# Altium schematic symbol library SchLib_Main.SchLib: 425 symbols (part 5 of 11)
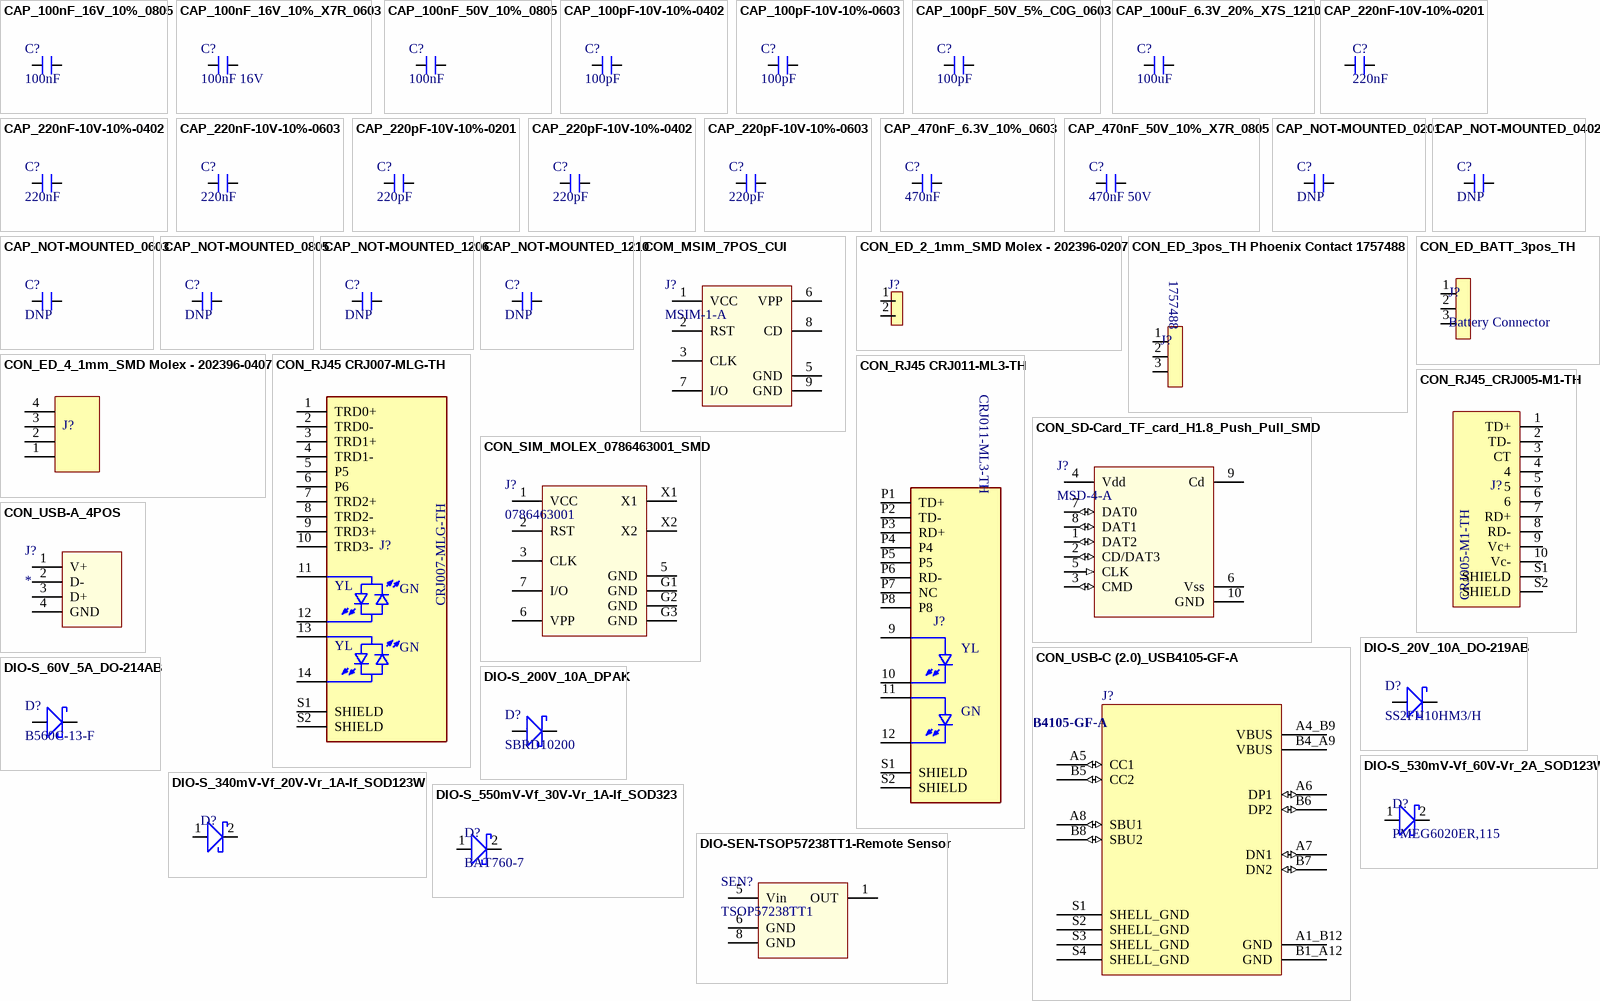
[diagram p20: symbols CAP_100nF_16V_10%_0805 to DIO-SEN-TSOP57238TT1-Remote Sensor]

## CON_ED_4_1mm_SMD Molex - 202396-0407
designator J?  (value not drawn)
Conn Shrouded Header (4 Sides) HDR 4 POS 1mm Solder RA SMD Pico-Clasp™ T/R; Manufacturer: Molex; Manufacturer Part Number: 202396-0407; Supplier 1: Mouser; RoHS: No; Category: Headers and Wire Housings; Stock 1: 53379; Pricing 1: 1=1.14, 10=0.932, 50=0.932, 100=0.795, 1000=0.739, 10000=0.47 (USD); ComponentLink1URL: http://datasheet.octopart.com/202396-0407-Molex-datasheet-134623761.pdf?src-supplier=Verical; ComponentLink1Description: http://datasheet.octopart.com/202396-0407-Molex-datasheet-134623761.pdf?src-supplier=Verical; ComponentLink2URL: https://www.molex.com/pdm_docs/sd/2023960407_sd.pdf?src-supplier=Digi-Key; ComponentLink2Description: https://www.molex.com/pdm_docs/sd/2023960407_sd.pdf?src-supplier=Digi-Key; ComponentLink3URL: http://datasheet.octopart.com/202396-0407-Molex-datasheet-134623761.pdf?src-supplier=Farnell; ComponentLink3Description: http://datasheet.octopart.com/202396-0407-Molex-datasheet-134623761.pdf?src-supplier=Farnell; ComponentLink4URL: http://datasheet.octopart.com/202396-0407-Molex-datasheet-134623761.pdf?src-supplier=Mouser; ComponentLink4Description: http://datasheet.octopart.com/202396-0407-Molex-datasheet-134623761.pdf?src-supplier=Mouser; ComponentLink5URL: http://datasheet.octopart.com/202396-0407-Molex-datasheet-134623761.pdf?src-supplier=Avnet; ComponentLink5Description: http://datasheet.octopart.com/202396-0407-Molex-datasheet-134623761.pdf?src-supplier=Avnet; ComponentLink6URL: http://datasheet.octopart.com/202396-0407-Molex-datasheet-134623761.pdf?src-supplier=Newark; ComponentLink6Description: http://datasheet.octopart.com/202396-0407-Molex-datasheet-134623761.pdf?src-supplier=Newark; ComponentLink7URL: http://datasheet.octopart.com/202396-0407-Molex-datasheet-134623761.pdf?src-supplier=Digi-Key; ComponentLink7Description: http://datasheet.octopart.com/202396-0407-Molex-datasheet-134623761.pdf?src-supplier=Digi-Key; ComponentLink8URL: http://datasheet.octopart.com/202396-0407-Molex-datasheet-134623761.pdf?src-supplier=Onlinecomponents.com; ComponentLink8Description: http://datasheet.octopart.com/202396-0407-Molex-datasheet-134623761.pdf?src-supplier=Onlinecomponents.com; ComponentLink9URL: http://datasheet.octopart.com/202396-0407-Molex-datasheet-134623761.pdf?src-supplier=Electro+Sonic; ComponentLink9Description: http://datasheet.octopart.com/202396-0407-Molex-datasheet-134623761.pdf?src-supplier=Electro+Sonic; ComponentLink10URL: http://datasheet.octopart.com/202396-0407-Molex-datasheet-134623761.pdf?src-supplier=Heilind+Electronics; ComponentLink10Description: http://datasheet.octopart.com/202396-0407-Molex-datasheet-134623761.pdf?src-supplier=Heilind+Electronics; ComponentLink11URL: https://datasheet.octopart.com/202396-0407-Molex-datasheet-154746675.pdf?src-supplier=Master+Electronics; ComponentLink11Description: https://datasheet.octopart.com/202396-0407-Molex-datasheet-154746675.pdf?src-supplier=Master+Electronics; ComponentLink12URL: https://datasheet.octopart.com/202396-0407-Molex-datasheet-134623761.pdf?src-supplier=TME; ComponentLink12Description: https://datasheet.octopart.com/202396-0407-Molex-datasheet-134623761.pdf?src-supplier=TME; Supplier 2: Digi-Key; Manufacturer 2: Molex; Manufacturer Part Number 2: 202396-0407; Stock 2: 11088; Pricing 2: 1=1.05, 10=0.869, 100=0.7238 (USD); Supplier Part Number 2: WM26785CT-ND
footprint CON_ED_4Pos_1mm_SMD_Molex 202396-407
pins: 1 GND, 2 SDA, 3 SCL, 4 VCC

## CON_ED_BATT_3pos_TH
designator J?, comment Battery Connector
Connector Header Surface Mount, Right Angle 3 position 0.047" (1.20mm); Manufacturer 1: JST; Manufacturer Part Number 1: BM03B-ACHSS-GAN-TF; Supplier 1: Digi-Key; RoHS: No; Category: Connectors; Stock 1: 71629; Pricing 1: 1=0.71, 10=0.615, 100=0.5073, 500=0.44112, 1000=0.36393 (USD); Supplier Part Number 1: 455-BM03B-ACHSS-GAN-TFCT-ND
footprint CON_ED_Battery_3POS (Connector Header Surface Mount, Right Angle 3 position 0.047" (1.20mm))
pins: 1 13, 2 14, 3 15

## CON_RJ45 CRJ007-MLG-TH
designator J?  (value not drawn)
RJ jack, 1 port, 8P8C, gold flash, sheild, spring tabs, Y/G LED, magnetic; Manufacturer 1: CUI Devices; Manufacturer Part Number 1: CRJ007-MLG-TH; Supplier 1: Digi-Key; RoHS: No; Category: Modular / Ethernet Connectors; Stock 1: 783; Pricing 1: 1=7.76, 10=7.013, 25=6.6256, 40=6.464, 80=6.14075, 230=5.49439, 700=5.1712, 1400=4.5248 (USD); Supplier Part Number 1: 2223-CRJ007-MLG-TH-ND
footprint CON_RJ45 CRJ007-MLG-TH
pins: 1 TRD0+, 2 TRD0-, 3 TRD1+, 4 TRD1-, 5 P5, 6 P6, 7 TRD2+, 8 TRD2-, 9 TRD3+, 10 TRD3-, 11, 12, 13, 14, S1 SHIELD, S2 SHIELD
text: YL; GN

## CON_RJ45 CRJ011-ML3-TH
designator J?  (value not drawn)
10/100 BaseT, 8P8C, Single Port, Horizontal, Shielded, LED, Through Hole, RJ45 with Integrated Magnetics Modular...; Manufacturer: CUI Devices; Manufacturer Part Number: CRJ011-ML3-TH; Supplier 1: Digi-Key; RoHS: No; Category: Modular / Ethernet Connectors; Stock 1: 390; Pricing 1: 1=5.48, 10=4.975, 25=4.712, 40=4.6025, 80=4.38338, 230=3.83548, 440=3.72589, 1200=3.17797, 2400=2.9588 (USD); Supplier 2: Digi-Key; Manufacturer 2: CUI Devices; Manufacturer Part Number 2: CRJ011-ML3-TH; Stock 2: 380; Pricing 2: 1=5.48, 10=4.975, 25=4.712, 40=4.6025, 80=4.38338, 230=3.83548, 440=3.72589, 1200=3.17797, 2400=2.9588 (USD); Supplier Part Number 2: 2223-CRJ011-ML3-TH-ND
footprint CON_RJ45 CRJ011-ML3-TH
pins: 9, 10, 11, 12, P1 TD+, P2 TD-, P3 RD+, P4, P5, P6 RD-, P7 NC, P8, S1 SHIELD, S2 SHIELD
text: YL; GN

## CON_RJ45_CRJ005-M1-TH
designator J?  (value not drawn)
CRJ005 Series 8 Position Single Port Right Angle RJ45 Through Hole Modular Jack; Manufacturer: CUI Devices; Manufacturer Part Number: CRJ005-M1-TH; Supplier 1: Digi-Key; RoHS: No; Stock 1: 1456; Pricing 1: 1=5.73, 10=5.204, 25=4.9292, 40=4.81475, 80=4.58538, 230=4.01222, 440=3.89759, 1500=3.20978, 3000=3.09515 (USD); Supplier 2: Digi-Key; Manufacturer 2: CUI Devices; Manufacturer Part Number 2: CRJ005-M1-TH; Stock 2: 1456; Pricing 2: 1=5.73, 10=5.204, 25=4.9292, 40=4.81475, 80=4.58538, 230=4.01222, 440=3.89759, 1500=3.20978, 3000=3.09515 (USD); Supplier Part Number 2: 2223-CRJ005-M1-TH-ND
footprint CON_RJ45_TH
pins: 1 TD+, 2 TD-, 3 CT, 4, 5, 6, 7 RD+, 8 RD-, 9 Vc+, 10 Vc-, S1 SHIELD, S2 SHIELD

## CON_SD-Card_TF_card_H1.8_Push_Pull_SMD
designator J?, comment MSD-4-A
Memory Card Connectors 9 Positions, Push In, Auto Eject Out, SMT, 1.8 mm Height Above Board,; Manufacturer: SHOU HAN; Manufacturer Part Number: TF-CARDH1.8; ComponentLink6URL: https://datasheet.ciiva.com/683/1040310811-sd-683581.pdf?src-supplier=Digi-Key; ComponentLink6Description: https://datasheet.ciiva.com/683/1040310811-sd-683581.pdf?src-supplier=Digi-Key; ComponentLink7URL: https://datasheet.ciiva.com/15174/getdatasheetpartid-716154-15174887.pdf?src-supplier=Verical; ComponentLink7Description: https://datasheet.ciiva.com/15174/getdatasheetpartid-716154-15174887.pdf?src-supplier=Verical; Supplier: LCSC; Supplier Part Number: C7529389; RoHS: No; Category: Uncategorized; Stock: 1616; Pricing: 1=0.35, 10=0.348, 25=0.3408, 50=0.3204, 100=0.2727, 250=0.25224, 500=0.24544 (USD)
footprint CON_SD_CARD_9POS_1.1mm-P_1ROW (MSD-4-A / TF-CARD-H1.8)
pins: 1 DAT2 (io), 2 CD/DAT3 (io), 3 CMD (io), 4 Vdd (power), 5 CLK (in), 6 Vss (power), 7 DAT0 (io), 8 DAT1 (io), 9 Cd, 10 GND

## CON_SIM_MOLEX_0786463001_SMD
designator J?, comment 0786463001
PCB Connector, 6 Contact(s), 2 Row(s), Male, Right Angle, Surface Mount Terminal, Locking, Black Insulator, Socket; Manufacturer: Molex; Manufacturer Part Number: 78646-3001; Supplier: Digi-Key; Supplier Part Number: WM9364CT-ND; RoHS: Yes; Category: Memory Connectors; Stock: 261350; Pricing: 1=1.27, 10=1.048, 100=0.8736 (USD); ComponentLink1URL: https://datasheet.ciiva.com/4581/0786463001-memory-card-socket-152580-4581070.pdf?src-supplier=Mouser; ComponentLink1Description: https://datasheet.ciiva.com/4581/0786463001-memory-card-socket-152580-4581070.pdf?src-supplier=Mouser; ComponentLink2URL: https://datasheet.ciiva.com/24490/525020786463001-memory-card-socket-24490529.pdf?src-supplier=Onlinecomponents.com; ComponentLink2Description: https://datasheet.ciiva.com/24490/525020786463001-memory-card-socket-24490529.pdf?src-supplier=Onlinecomponents.com; ComponentLink3URL: https://datasheet.ciiva.com/16655/0786463001-memory-card-socket-16655172.pdf?; ComponentLink3Description: https://datasheet.ciiva.com/16655/0786463001-memory-card-socket-16655172.pdf?
footprint SIM_SOCKET_0786463001_MOLEX (0786463001)
pins: 1 VCC, 2 RST, 3 CLK, 5 GND, 6 VPP, 7 I/O, G1 GND, G2 GND, G3 GND, X1, X2

## CON_USB-A_4POS
designator J?
footprint CON_USB_TYPE-A
pins: 1 V+, 2 D-, 3 D+, 4 GND

## CON_USB-C (2.0)_USB4105-GF-A
designator J?  (value not drawn)
Conn USB 2.0 Type C RCP 24 POS 0.3mm/0.5mm Solder RA SMD 24 Terminal 1 Port T/R; Manufacturer 1: Global Connector Technology; Manufacturer Part Number 1: USB4105-GF-A; Gender: Receptacle; Mating Cycles: 10000; Shielding: Shielded; Number of Ports: 1; ComponentLink1URL: https://gct.co/files/drawings/usb4105.pdf?src-supplier=Digi-Key; ComponentLink1Description: https://gct.co/files/drawings/usb4105.pdf?src-supplier=Digi-Key; ComponentLink2URL: https://datasheet.octopart.com/USB4105-GF-A-GCT-datasheet-166929323.pdf?src-supplier=TME; ComponentLink2Description: https://datasheet.octopart.com/USB4105-GF-A-GCT-datasheet-166929323.pdf?src-supplier=TME; Supplier 1: Farnell; RoHS: No; Category: USB Connectors; Pricing 1: 1=0.72, 20=0.559, 60=0.522, 160=0.443, 400=0.434 (GBP); Mount: Surface Mount,Through Hole,Horizontal; Contact Plating: Gold; Insulation Color: Black; Min Operating Temperature: -40°C; Max Operating Temperature: 85°C; Connector Type: USB; Series: USB4105; Termination: Solder; Flammability Rating: UL94 V-0; Supplier Part Number 1: 3588205
footprint CON_USB_TYPE-C-2.0 SMD TH
pins: A1_B12 GND, A4_B9 VBUS, A5 CC1 (io), A6 DP1 (io), A7 DN1 (io), A8 SBU1 (io), B1_A12 GND, B4_A9 VBUS, B5 CC2 (io), B6 DP2 (io), B7 DN2 (io), B8 SBU2 (io), S1 SHELL_GND, S2 SHELL_GND, S3 SHELL_GND, S4 SHELL_GND

## DIO-S_20V_10A_DO-219AB
designator D?, comment SS2FH10HM3/H
Rectifier Diode, Schottky, 1 Phase, 1 Element, 2A, 100V V(RRM), Silicon, DO-219AB; Manufacturer: Vishay Semiconductors; Package Body Material: Plastic; Application(s): GENERAL PURPOSE; Forward Voltage: 860mV; Non-rep Pk Forward Current-Max: 50A; Number of Elements: 1; Max Reverse Current: 5uA; Reference Standard: AEC-Q101; Supplier: Digikey; Supplier Part Number: SS2FH10HM3/HGICT-ND; Manufacturer Part Number: SS2FH10HM3/H; RoHS: Yes; Category: Rectifier Diodes; Stock: 20427; Pricing: 1=0.42, 10=0.325, 100=0.1953, 500=0.1808, 1000=0.12294 (USD); Pins: 2; Diode Element Material: SILICON; Package Shape: Rectangular; Terminal Finish: Tin; Min Operating Temperature: -55°C; Max Operating Temperature: 175°C; JESD-609 Code: e3; Diode Type: RECTIFIER; JESD-30 Code: R-PDSO-F2; Moisture Sensitivity Level: 1; Number of Phases: 1; Max Output current: 2A; Package Style: SMALL OUTLINEMeter; Rep Pk Reverse Voltage-Max: 100V; Surface Mount: Yes; Technology: SCHOTTKY; Terminal Form: Flat; Terminal Position: DUAL; JEDEC-95 Code: DO-219AB; RoHS Compliant: Yes; ComponentLink1URL: https://datasheet.ciiva.com:443/pdfs/VipMasterIC/IC/VISH/VISH-S-A0006279306/VISH-S-A0006279306-1.pdf?src-supplier=IHS+Markit; ComponentLink1Description: https://datasheet.ciiva.com:443/pdfs/VipMasterIC/IC/VISH/VISH-S-A0006279306/VISH-S-A0006279306-1.pdf?src-supplier=IHS+Markit; ComponentLink2URL: http://www.mouser.com/ds/2/427/ss2fh10-935254.pdf?src-supplier=Mouser; ComponentLink2Description: http://www.mouser.com/ds/2/427/ss2fh10-935254.pdf?src-supplier=Mouser; ComponentLink3URL: http://www.vishay.com/docs/87749/ss2fh10.pdf?src-supplier=Digikey; ComponentLink3Description: http://www.vishay.com/docs/87749/ss2fh10.pdf?src-supplier=Digikey
footprint DO-219AB
pins: 1, 2

## DIO-S_60V_5A_DO-214AB
designator D?, comment B560C-13-F
Rectifier Diode, Schottky, 1 Phase, 1 Element, 5A, 60V V(RRM), Silicon; Manufacturer: Diodes; Package Body Material: Plastic; Time @ Peak Reflow Temperature-Max (s): 40s; Application(s): EFFICIENCY; Non-rep Pk Forward Current-Max: 100A; Number of Elements: 1; Forward Voltage: 700mV; Qualification Status: Not Qualified; Supplier: Digi-Key; Supplier Part Number: B560C-FDICT-ND; Manufacturer Part Number: B560C-13-F; RoHS: Yes; Category: Rectifier Diodes; Stock: 7154; Pricing: 1=0.51, 10=0.436, 100=0.3033, 500=0.2368, 1000=0.19248 (USD); Pins: 2; Package Shape: Rectangular; Terminal Finish: Tin; Diode Element Material: SILICON; Min Operating Temperature: -55°C; Max Operating Temperature: 125°C; JESD-609 Code: e3; JESD-30 Code: R-PDSO-C2; Moisture Sensitivity Level: 1; Package Style: SMALL OUTLINEMeter; Peak Reflow Temperature (Cel): 260°C; Surface Mount: Yes; Technology: SCHOTTKY; Terminal Form: C BEND; Terminal Position: DUAL; Diode Type: RECTIFIER; Number of Phases: 1; Max Output current: 5A; Rep Pk Reverse Voltage-Max: 60V; RoHS Compliant: Yes; Reach SVHC Compliant: No; ComponentLink1URL: https://datasheet.ciiva.com:443/pdfs/VipMasterIC/IC/DIOD/DIOD-S-A0007810469/DIOD-S-A0007810469-1.pdf?src-supplier=IHS+Markit; ComponentLink1Description: https://datasheet.ciiva.com:443/pdfs/VipMasterIC/IC/DIOD/DIOD-S-A0007810469/DIOD-S-A0007810469-1.pdf?src-supplier=IHS+Markit; ComponentLink2URL: https://datasheet.ciiva.com/27052/1538961-27052355.pdf?src-supplier=Jameco; ComponentLink2Description: https://datasheet.ciiva.com/27052/1538961-27052355.pdf?src-supplier=Jameco; ComponentLink3URL: https://datasheet.ciiva.com/1177/ds13012-1177532.pdf?src-supplier=Element14; ComponentLink3Description: https://datasheet.ciiva.com/1177/ds13012-1177532.pdf?src-supplier=Element14; ComponentLink4URL: https://datasheet.ciiva.com/914/ds13012-914985.pdf?src-supplier=Digi-Key; ComponentLink4Description: https://datasheet.ciiva.com/914/ds13012-914985.pdf?src-supplier=Digi-Key; ComponentLink5URL: https://datasheet.ciiva.com/914/ds13012-914986.pdf?src-supplier=Digi-Key; ComponentLink5Description: https://datasheet.ciiva.com/914/ds13012-914986.pdf?src-supplier=Digi-Key; ComponentLink6URL: https://datasheet.ciiva.com/914/ds13012-914987.pdf?src-supplier=Digi-Key; ComponentLink6Description: https://datasheet.ciiva.com/914/ds13012-914987.pdf?src-supplier=Digi-Key; ComponentLink7URL: https://datasheet.ciiva.com/16389/ds13012-16389735.pdf?src-supplier=Future+Electronics; ComponentLink7Description: https://datasheet.ciiva.com/16389/ds13012-16389735.pdf?src-supplier=Future+Electronics; ComponentLink8URL: https://datasheet.ciiva.com/15144/getdatasheetpartid-89786-15144652.pdf?src-supplier=Verical; ComponentLink8Description: https://datasheet.ciiva.com/15144/getdatasheetpartid-89786-15144652.pdf?src-supplier=Verical
footprint DO-214AB SMC
pins: 1, 2

## DIO-S_200V_10A_DPAK
designator D?, comment SBRD10200
Diode Schottky 200V 10A Dpak; Manufacturer: Sangdest Microelectronics; Supplier: Digikey; Supplier Part Number: 1655-SBRD10200CT-ND; Manufacturer Part Number: SBRD10200; RoHS: No; Category: Uncategorized; Stock: 46636; Pricing: 1=0.54, 10=0.461, 100=0.3204, 500=0.25014, 1000=0.20331 (USD)
footprint DPAK - TO-252
pins: 1,3 1, 4

## DIO-S_340mV-Vf_20V-Vr_1A-If_SOD123W
designator D?, comment PMEG2010ER,115  (value not drawn)
DIODE SCHOTTKY 20V 1A SOD123W; Manufacturer 1: Nexperia; ComponentLink1URL: http://www.farnell.com/datasheets/1383341.pdf?src-supplier=Farnell; ComponentLink1Description: http://www.farnell.com/datasheets/1383341.pdf?src-supplier=Farnell; ComponentLink2URL: https://datasheet.octopart.com/PMEG2010ER%2C115-Nexperia-datasheet-8325837.pdf?src-supplier=Newark; ComponentLink2Description: https://datasheet.octopart.com/PMEG2010ER%2C115-Nexperia-datasheet-8325837.pdf?src-supplier=Newark; ComponentLink3URL: http://www.farnell.com/datasheets/1383341.pdf?src-supplier=Element14; ComponentLink3Description: http://www.farnell.com/datasheets/1383341.pdf?src-supplier=Element14; Supplier 1: Digi-Key; Manufacturer Part Number 1: PMEG2010ER,115; RoHS: Yes; Category: Rectifier Diodes; Stock 1: 184921; Pricing 1: 1=0.41, 10=0.308, 100=0.1919, 500=0.1313, 1000=0.101 (USD); Supplier Part Number 1: 1727-5192-1-ND
footprint SOD-123W
pins: 1, 2

## DIO-S_530mV-Vf_60V-Vr_2A_SOD123W
designator D?, comment PMEG6020ER,115
Rectifier Diode, Schottky, 1 Phase, 1 Element, 2A, 60V V(RRM), Silicon; Manufacturer: Nexperia; Supplier 1: Digi-Key; Supplier Part Number 1: 1727-5217-1-ND; Manufacturer Part Number: PMEG6020ER,115; RoHS: Yes; Category: Rectifier Diodes; Stock 1: 174398; Pricing 1: 1=0.38, 10=0.306, 100=0.2081, 500=0.1561, 1000=0.11708 (USD); ComponentLink1URL: http://www.farnell.com/datasheets/609333.pdf?src-supplier=Farnell; ComponentLink1Description: http://www.farnell.com/datasheets/609333.pdf?src-supplier=Farnell; ComponentLink2URL: https://datasheet.octopart.com/PMEG6020ER%2C115-Nexperia-datasheet-8825633.pdf?src-supplier=Newark; ComponentLink2Description: https://datasheet.octopart.com/PMEG6020ER%2C115-Nexperia-datasheet-8825633.pdf?src-supplier=Newark; ComponentLink3URL: http://www.farnell.com/datasheets/609333.pdf?src-supplier=Newark; ComponentLink3Description: http://www.farnell.com/datasheets/609333.pdf?src-supplier=Newark; ComponentLink4URL: https://assets.nexperia.com/documents/data-sheet/PMEG6020ER.pdf?src-supplier=Digi-Key; ComponentLink4Description: https://assets.nexperia.com/documents/data-sheet/PMEG6020ER.pdf?src-supplier=Digi-Key; ComponentLink5URL: https://datasheet.octopart.com/PMEG6020ER%2C115-Nexperia-datasheet-81455721.pdf?src-supplier=TME; ComponentLink5Description: https://datasheet.octopart.com/PMEG6020ER%2C115-Nexperia-datasheet-81455721.pdf?src-supplier=TME; Supplier 2: Future Electronics; Stock 2: 303000; Pricing 2: 3000=0.0783, 9000=0.0753, 15000=0.0739, 30000=0.0721, 60000=0.0694 (USD); RoHS Compliant: Yes; Manufacturer 1: Nexperia; Manufacturer Part Number 1: PMEG6020ER,115; Supplier 3: Digi-Key; Manufacturer 3: Nexperia; Manufacturer Part Number 3: PMEG6020ER,115; Stock 3: 174398; Pricing 3: 1=0.38, 10=0.306, 100=0.2081, 500=0.1561, 1000=0.11708 (USD); Supplier Part Number 3: 1727-5217-6-ND
footprint SOD-123W
pins: 1, 2

## DIO-S_550mV-Vf_30V-Vr_1A-If_SOD323
designator D?, comment BAT760-7
VR=30V IF=1A 25pF P=235mW; Manufacturer 1: Diodes; ComponentLink1URL: https://datasheet.ciiva.com/8301/ds30498-8301400.pdf?src-supplier=Avnet; ComponentLink1Description: https://datasheet.ciiva.com/8301/ds30498-8301400.pdf?src-supplier=Avnet; ComponentLink2URL: https://datasheet.ciiva.com/4715/ds30498-63155-4715521.pdf?src-supplier=Mouser; ComponentLink2Description: https://datasheet.ciiva.com/4715/ds30498-63155-4715521.pdf?src-supplier=Mouser; ComponentLink3URL: https://datasheet.ciiva.com/1178/ds30498-1178033.pdf?src-supplier=Element14; ComponentLink3Description: https://datasheet.ciiva.com/1178/ds30498-1178033.pdf?src-supplier=Element14; ComponentLink4URL: https://datasheet.ciiva.com/914/ds30498-914551.pdf?src-supplier=Digi-Key; ComponentLink4Description: https://datasheet.ciiva.com/914/ds30498-914551.pdf?src-supplier=Digi-Key; ComponentLink5URL: https://datasheet.ciiva.com/914/ds30498-914552.pdf?src-supplier=Digi-Key; ComponentLink5Description: https://datasheet.ciiva.com/914/ds30498-914552.pdf?src-supplier=Digi-Key; ComponentLink6URL: https://datasheet.ciiva.com/914/ds30498-914553.pdf?src-supplier=Digi-Key; ComponentLink6Description: https://datasheet.ciiva.com/914/ds30498-914553.pdf?src-supplier=Digi-Key; ComponentLink7URL: https://datasheet.ciiva.com/22695/1670989-22695799.pdf?src-supplier=Element14; ComponentLink7Description: https://datasheet.ciiva.com/22695/1670989-22695799.pdf?src-supplier=Element14; Supplier 1: Digi-Key; Manufacturer Part Number 1: BAT760-7; RoHS: Yes; Category: Rectifier Diodes; Stock 1: 5345; Pricing 1: 1=0.53, 10=0.454, 100=0.3394, 500=0.26664, 1000=0.20604 (USD); Supplier Part Number 1: BAT760DICT-ND
footprint SOD323 BAT760-7
pins: 1, 2

## DIO-SEN-TSOP57238TT1-Remote Sensor
designator SEN?, comment TSOP57238TT1
TSOP57238TT1; 38kHz IR Receiver +/-75 deg; 40m Range; 2.5V - 5V; SMT; 3.95x3.95x0.8mm; Manufacturer: Vishay Semiconductors; Max Supply Voltage: 5.5V; Output Current: 5mA; Viewing Angle: 75°; Operating Supply Current: 700uA; Power Dissipation: 10mW; Supplier 1: Digikey; Manufacturer Part Number: TSOP57238TT1; RoHS: Yes; Category: Optical Sensors; Stock 1: 7638; Pricing 1: 1=2.02, 10=1.347, 100=1.0369, 500=0.93728 (USD); Mount: Surface Mount; Case/Package: TSOP; Number of Pins: 8; Min Operating Temperature: -25°C; Max Operating Temperature: 85°C; Packaging: Tape and Reel; Min Supply Voltage: 2.5V; Sensing Distance: 40m; Orientation: Top View; Series: -; Supply Current: 5mA; Length: 3.95mm; Width: 3.95mm; Height: 0.8mm; Radiation Hardening: No; RoHS Compliant: Yes; Reach SVHC Compliant: Unknown; ComponentLink1URL: https://datasheet.ciiva.com/8078/tsop572-8078160.pdf?src-supplier=Element14; ComponentLink1Description: https://datasheet.ciiva.com/8078/tsop572-8078160.pdf?src-supplier=Element14; ComponentLink2URL: https://datasheet.ciiva.com/2798/tsop572-2798630.pdf?src-supplier=Digikey; ComponentLink2Description: https://datasheet.ciiva.com/2798/tsop572-2798630.pdf?src-supplier=Digikey; Supplier Part Number 1: TSOP57238TT1CT-ND
footprint TSOP578
pins: 1 OUT, 5 Vin, 6 GND, 8 GND

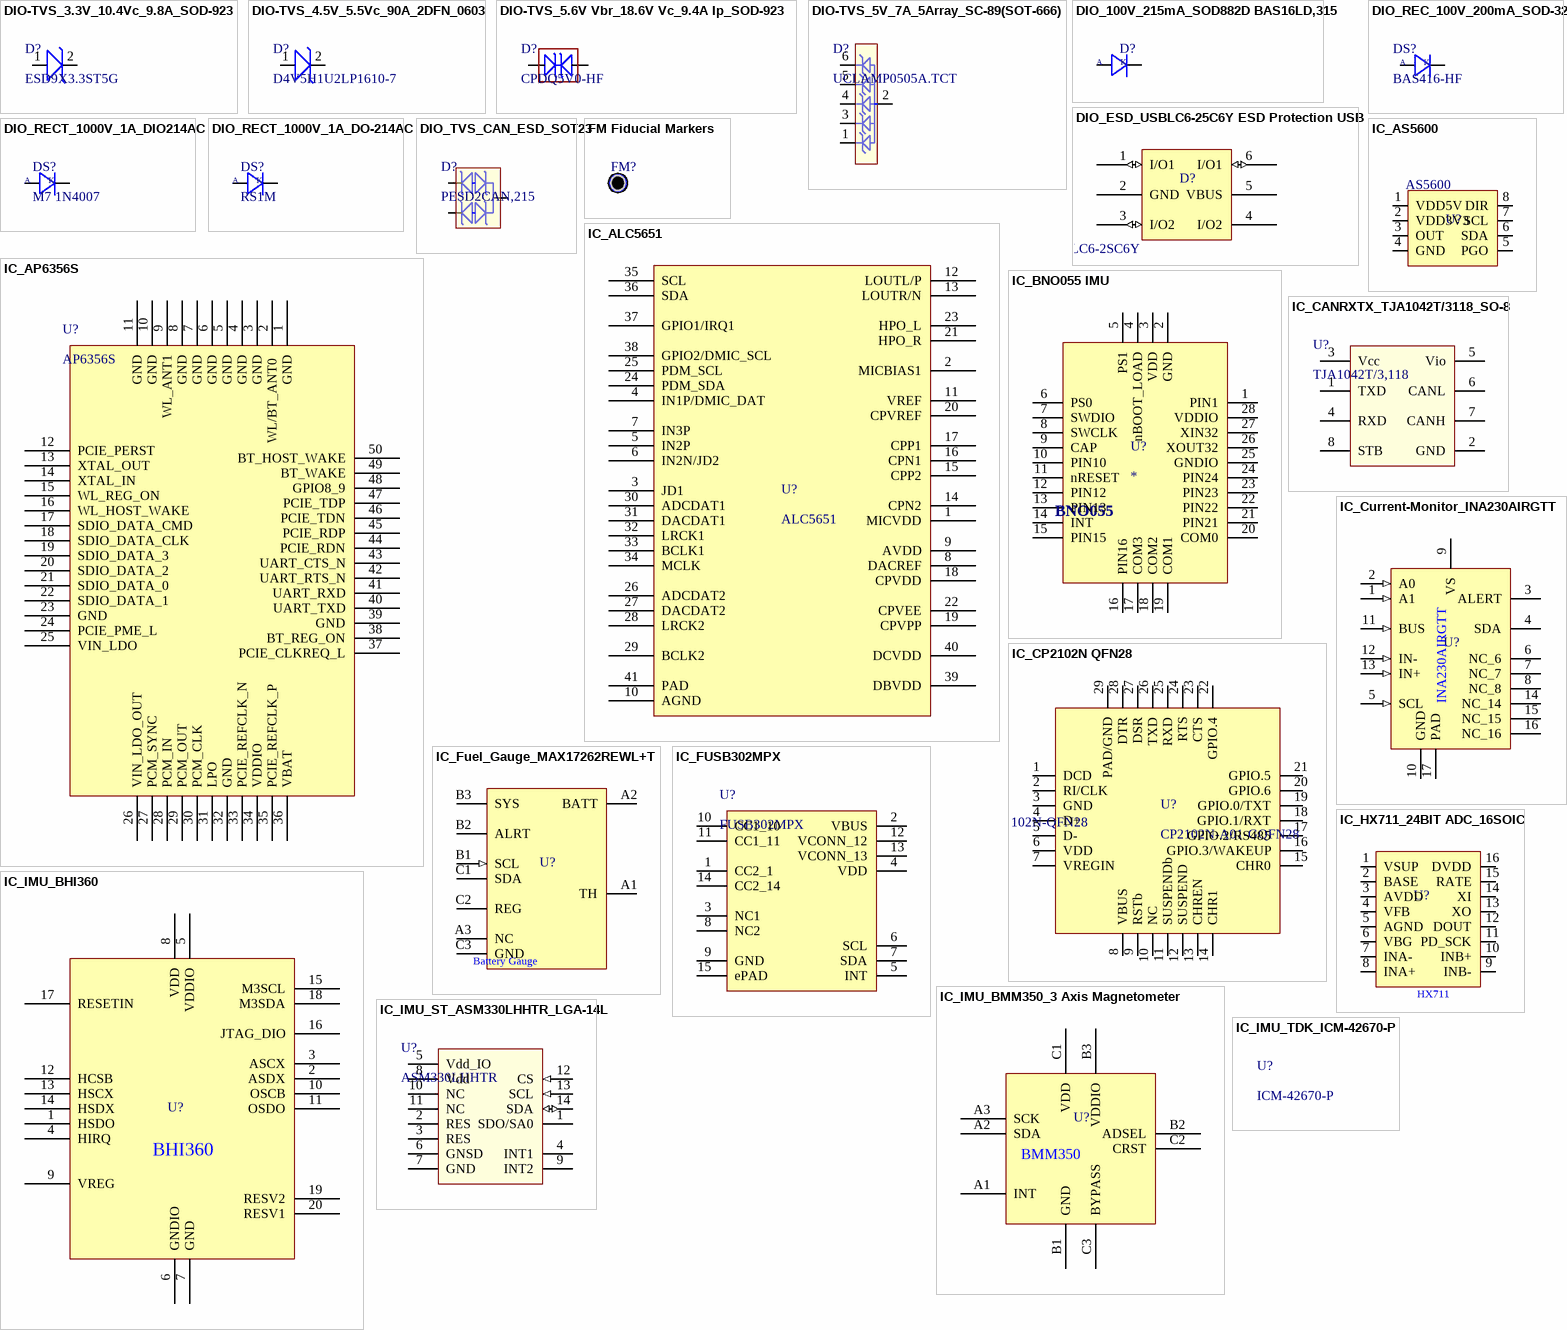
[diagram p3: symbols DIO-TVS_3.3V_10.4Vc_9.8A_SOD-923 to IC_IMU_TDK_ICM-42670-P]

## DIO-TVS_3.3V_10.4Vc_9.8A_SOD-923
designator D?, comment ESD9X3.3ST5G
Trans Voltage Suppressor Diode, 102W, 3.3V V(RWM), Unidirectional, 1 Element, Silicon; Manufacturer: ON Semiconductor; Package Body Material: Plastic; Min Breakdown Voltage: 5V; Number of Elements: 1; Clamping Voltage-Max: 10.4V; Max Power Dissipation: 150mW; Time @ Peak Reflow Temperature-Max (s): 40s; Qualification Status: Not Qualified; Supplier: Digi-Key; Supplier Part Number: ESD9X3.3ST5GOSCT-ND; Manufacturer Part Number: ESD9X3.3ST5G; RoHS: Yes; Category: ESD and Circuit Protection ICs; Stock: 3511; Pricing: 1=0.28, 10=0.193, 100=0.0942, 500=0.07858, 1000=0.0546, 2000=0.04732 (USD); Pins: 2; Diode Element Material: SILICON; Package Shape: Rectangular; Terminal Finish: Tin; Min Operating Temperature: -55°C; Max Operating Temperature: 150°C; Polarity: Unidirectional; Diode Type: TRANS VOLTAGE SUPPRESSOR; Package Style: SMALL OUTLINEMeter; Surface Mount: Yes; Technology: AVALANCHE; Terminal Form: Flat; Terminal Position: DUAL; JESD-609 Code: e3; JESD-30 Code: R-PDSO-F2; Moisture Sensitivity Level: 1; Rep Pk Reverse Voltage-Max: 3.3V; Peak Reflow Temperature (Cel): 260°C; Non-rep Peak Rev Power Dis-Max: 102W; Reach SVHC Compliant: Yes; RoHS Compliant: Yes; ComponentLink1URL: https://datasheet.ciiva.com:443/pdfs/VipMasterIC/IC/ONSM/ONSM-S-A0003579749/ONSM-S-A0003579749-1.pdf?src-supplier=IHS+Markit; ComponentLink1Description: https://datasheet.ciiva.com:443/pdfs/VipMasterIC/IC/ONSM/ONSM-S-A0003579749/ONSM-S-A0003579749-1.pdf?src-supplier=IHS+Markit
pins: 1, 2

## DIO-TVS_4.5V_5.5Vc_90A_2DFN_0603
designator D?, comment D4V5H1U2LP1610-7
11.5V Clamp 90A (8/20µs) Ipp Tvs Diode Surface Mount U-DFN1610-2 (Type B); Manufacturer: Diodes; Diode Type: TRANS VOLTAGE SUPPRESSOR; Supplier: Digi-Key; Supplier Part Number: D4V5H1U2LP1610-7DIDKR-ND; Manufacturer Part Number: D4V5H1U2LP1610-7; RoHS: Yes; Category: TVS Diodes; Stock: 77071; Pricing: 1=0.38, 10=0.272, 100=0.1374, 500=0.12174, 1000=0.09474, 2000=0.08479, 5000=0.0829 (USD); Reach SVHC Compliant: Yes; RoHS Compliant: Yes; ComponentLink1URL: https://datasheet.ciiva.com:443/pdfs/VipMasterIC/IC/DIOD/DIOD-S-A0004145107/DIOD-S-A0004145026-1.pdf?src-supplier=IHS+Markit; ComponentLink1Description: https://datasheet.ciiva.com:443/pdfs/VipMasterIC/IC/DIOD/DIOD-S-A0004145107/DIOD-S-A0004145026-1.pdf?src-supplier=IHS+Markit; Supplier 1: Digi-Key; Supplier Part Number 1: D4V5H1U2LP1610-7DICT-ND
pins: 1, 2

## DIO-TVS_5.6V Vbr_18.6V Vc_9.4A Ip_SOD-923
designator D?, comment CPDQ5V0-HF
ESD Suppressor Diode TVS Bi-Dir 5V 18.6Vc 2-Pin SOD-923F T/R; Manufacturer: Comchip; Min Breakdown Voltage: 5.6V; Clamping Voltage: 7.3V; Peak Pulse Power: 174W; Power Line Protection: No; Peak Pulse Current: 9.4A; Diode Type: ZENER; Capacitance: 15pF; Number of Bidirectional Channels: 1; Supplier 1: Digi-Key; Manufacturer Part Number: CPDQ5V0-HF; RoHS: Yes; Category: TVS Diodes; Stock 1: 81421; Pricing 1: 1=0.31, 10=0.252, 100=0.1337, 500=0.08794, 1000=0.0598, 2000=0.05394 (USD); Mount: Surface Mount; Case/Package: 0402; Min Operating Temperature: -40°C; Max Operating Temperature: 125°C; Packaging: Tape and Reel; Package Quantity: 8000; Reverse Standoff Voltage: 5V; Breakdown Voltage: 5.6V; Series: -; Operating Supply Voltage: 5V; RoHS Compliant: Yes; ComponentLink1URL: https://datasheet.ciiva.com/6577/cpdq5v0-hf20reva825126-6577872.pdf?src-supplier=Digi-Key; ComponentLink1Description: https://datasheet.ciiva.com/6577/cpdq5v0-hf20reva825126-6577872.pdf?src-supplier=Digi-Key; ComponentLink2URL: https://datasheet.ciiva.com/12545/cpdq5v0-hf20reva825126-218795-12545530.pdf?src-supplier=Mouser; ComponentLink2Description: https://datasheet.ciiva.com/12545/cpdq5v0-hf20reva825126-218795-12545530.pdf?src-supplier=Mouser; Supplier 2: Digi-Key; Manufacturer 2: Comchip; Manufacturer Part Number 2: CPDQ5V0-HF; Stock 2: 80696; Pricing 2: 1=0.31, 10=0.214, 100=0.1042, 500=0.08692, 1000=0.0604, 2000=0.05235 (USD); Supplier Part Number 2: 641-1478-1-ND
footprint SOD-923F (SODFL, 2-Leads, Body 0.60x1.00mm, IPC Medium Density)
pins: 1, 2 "1"

## DIO-TVS_5V_7A_5Array_SC-89(SOT-666)
designator D?, comment UCLAMP0505A.TCT
Trans Voltage Suppressor Diode, 100W, 5V V(RWM), Unidirectional, 5 Element, Silicon; Manufacturer: Semtech; Package Body Material: Plastic; Min Breakdown Voltage: 6V; Clamping Voltage-Max: 12V; Number of Elements: 5; Qualification Status: Not Qualified; Supplier: Digi-Key; Supplier Part Number: UCLAMP0505ACT-ND; Manufacturer Part Number: UCLAMP0505A.TCT; RoHS: Yes; Category: TVS Diodes; Stock: 14139; Pricing: 1=0.76, 10=0.656, 100=0.4545, 500=0.37976, 1000=0.3232 (USD); Pins: 6; Diode Element Material: SILICON; Package Shape: Rectangular; Terminal Finish: Tin; Min Operating Temperature: -55°C; Max Operating Temperature: 125°C; JESD-609 Code: e3; Polarity: Unidirectional; Diode Type: TRANS VOLTAGE SUPPRESSOR; JESD-30 Code: R-PDSO-F6; Moisture Sensitivity Level: 1; Non-rep Peak Rev Power Dis-Max: 100W; Package Style: SMALL OUTLINEMeter; Peak Reflow Temperature (Cel): 260°C; Rep Pk Reverse Voltage-Max: 5V; Surface Mount: Yes; Technology: AVALANCHE; Terminal Form: Flat; Terminal Position: DUAL; Reach SVHC Compliant: Yes; RoHS Compliant: Yes; ComponentLink1URL: https://datasheet.ciiva.com:443/pdfs/VipMasterIC/IC/SEMT/SEMT-S-A0000084877/SEMT-S-A0000084877-1.pdf?src-supplier=IHS+Markit; ComponentLink1Description: https://datasheet.ciiva.com:443/pdfs/VipMasterIC/IC/SEMT/SEMT-S-A0000084877/SEMT-S-A0000084877-1.pdf?src-supplier=IHS+Markit; ComponentLink2URL: https://datasheet.ciiva.com/26837/getdatasheetpartid-215864-26837202.pdf?src-supplier=Verical; ComponentLink2Description: https://datasheet.ciiva.com/26837/getdatasheetpartid-215864-26837202.pdf?src-supplier=Verical; ComponentLink3URL: https://datasheet.ciiva.com/11195/uclamp0505a-11195109.pdf?src-supplier=Avnet; ComponentLink3Description: https://datasheet.ciiva.com/11195/uclamp0505a-11195109.pdf?src-supplier=Avnet
pins: 1, 2, 3, 4, 5, 6

## DIO_100V_215mA_SOD882D BAS16LD,315
designator D?  (value not drawn)
DIODE GP 100V 215MA SOD882D; Manufacturer: Nexperia; Manufacturer Part Number: BAS16LD,315; Supplier 1: Future Electronics; RoHS: Yes; Category: Rectifier Diodes; Stock 1: 50000; Pricing 1: 10000=0.0289, 30000=0.0279, 40000=0.0276, 100000=0.0268, 150000=0.026 (USD); Supplier 2: Digi-Key; Manufacturer 2: Nexperia; Manufacturer Part Number 2: BAS16LD,315; Stock 2: 431411; Pricing 2: 1=0.26, 10=0.215, 100=0.114, 500=0.075, 1000=0.05099, 2000=0.046, 5000=0.04 (USD); Supplier Part Number 2: 1727-4421-1-ND
footprint BAS16LD,315 Diode
pins: 1, 2
text: A; K

## DIO_ESD_USBLC6-25C6Y ESD Protection USB
designator D?, comment USBLC6-2SC6Y  (value not drawn)
USBLC6 Series 2 Line 6 V Uni / Bi-Directional ESD Protection - SOT-23-6; Manufacturer: STMicroelectronics; Direction: Unidirectional,Bidirectional; Reverse Standoff Voltage: 5.25V; Min Breakdown Voltage: 6V; Power Line Protection: Yes; Peak Pulse Current: 5A; Capacitance: 3.5pF; Clamping Voltage: 17V; Leakage Current: 150nA; Operating Supply Voltage: 1.1V; Number of Channels: 2; Working Voltage: 5V; Test Current: 1mA; Number of Elements: 1; Data Rate: 480Mbps; Supplier 1: Mouser; Manufacturer Part Number: USBLC6-2SC6; RoHS: Yes; Category: TVS Diodes; Stock 1: 215645; Pricing 1: 1=0.59, 10=0.507, 50=0.507, 100=0.379, 1000=0.23, 10000=0.182 (USD); Mount: Surface Mount; Case/Package: SOT-23; Number of Pins: 6; Min Operating Temperature: -40°C; Max Operating Temperature: 125°C; Packaging: Tape and Reel; Series: USB; Breakdown Voltage: 6V; Package Quantity: 3000; Termination: SMD/SMT; Number of Bidirectional Channels: 2; ESD Protection: Yes; Max Reverse Leakage Current: 150nA; Reverse Breakdown Voltage: 6V; Polarity: Unidirectional,Bidirectional; Max Breakdown Voltage: 6V; Clamping Voltage-Max: 17V; Length: 3.05mm; Width: 1.75mm; Height: 1.3mm; Depth: 1.75mm; Radiation Hardening: No; RoHS Compliant: Yes; Lead Free: Lead Free; Reach SVHC Compliant: No; ComponentLink1URL: https://datasheet.ciiva.com/1268/1690354-1268384.pdf?src-supplier=Element14; ComponentLink1Description: https://datasheet.ciiva.com/1268/1690354-1268384.pdf?src-supplier=Element14; ComponentLink2URL: https://datasheet.ciiva.com/4508/cd00050750-113117-4508433.pdf?src-supplier=Mouser; ComponentLink2Description: https://datasheet.ciiva.com/4508/cd00050750-113117-4508433.pdf?src-supplier=Mouser; ComponentLink3URL: https://datasheet.ciiva.com/15143/getdatasheetpartid-148465-15143789.pdf?src-supplier=Verical; ComponentLink3Description: https://datasheet.ciiva.com/15143/getdatasheetpartid-148465-15143789.pdf?src-supplier=Verical; ComponentLink4URL: https://datasheet.ciiva.com/16200/cd00050750-16200026.pdf?src-supplier=Future+Electronics; ComponentLink4Description: https://datasheet.ciiva.com/16200/cd00050750-16200026.pdf?src-supplier=Future+Electronics; ComponentLink5URL: https://datasheet.ciiva.com/41444/001184109-da-01-en-ic-esd-protecti-usblc6-2sc6-sot-23-6-stm-41444156.pdf?src-supplier=Conrad; ComponentLink5Description: https://datasheet.ciiva.com/41444/001184109-da-01-en-ic-esd-protecti-usblc6-2sc6-sot-23-6-stm-41444156.pdf?src-supplier=Conrad
pins: 1 I/O1 (io), 2 GND, 3 I/O2 (io), 4 I/O2, 5 VBUS, 6 I/O1 (io)

## DIO_REC_100V_200mA_SOD-323
designator DS?, comment BAS416-HF
Diode Switching 85V 200MA 250MW; Manufacturer: Comchip; Supplier: DigiKey; Supplier Part Number: 641-BAS416-HFCT-ND; Manufacturer Part Number: BAS416-HF; Stock: 2730; Pricing: 1=0.21, 10=0.146, 100=0.0711, 500=0.0593, 1000=0.04121 (USD)
footprint SOD-323
pins: 1, 2
text: A; K

## DIO_RECT_1000V_1A_DIO214AC
designator DS?, comment M7 1N4007
Diode 1000 V 1A Surface Mount SMA/DO-214AC
footprint DIO214AC
footprint DIO214AC
pins: 1, 2
text: A; K

## DIO_RECT_1000V_1A_DO-214AC
designator DS?, comment RS1M
Rectifier Diode, 1 Element, 1A, 1000V V(RRM), Silicon, DO-214AC; Manufacturer: ON Semiconductor / Fairchild; Reverse Recovery Time: 500ns; Max Reverse Voltage (DC): 1kV; Max Reverse Current: 5uA; Forward Voltage: 1.3V; Peak Non-Repetitive Surge Current: 30A; Polarity: Standard; Capacitance: 10pF; Power Dissipation: 1.19W; Supplier 1: Digi-Key; Manufacturer Part Number: RS1M; RoHS: Yes; Category: Rectifier Diodes; Stock 1: 700045; Pricing 1: 1=0.46, 10=0.345, 100=0.1954, 500=0.12938, 1000=0.09919, 2000=0.08626 (USD); Mount: Surface Mount; Case/Package: DO-214AC; Number of Pins: 2; Min Operating Temperature: -55°C; Max Operating Temperature: 150°C; Packaging: Tape and Reel; Series: -; Package Quantity: 7500; Average Rectified Current: 1A; Forward Current: 1A; Max Repetitive Reverse Voltage (Vrrm): 1kV; Max Surge Current: 30A; Voltage Rating (DC): 1kV; Output Current: 1A; Recovery Time: 500ns; Max Forward Surge Current (Ifsm): 30A; Current Rating: 1A; Voltage: 1kV; Reverse Voltage: 1kV; Current: 1A; Length: 4.75mm; Width: 2.95mm; Height: 2.2mm; Radiation Hardening: No; RoHS Compliant: Yes; Lead Free: Lead Free; Reach SVHC Compliant: No; ComponentLink1URL: https://datasheet.ciiva.com/15144/getdatasheetpartid-88045-15144615.pdf?src-supplier=Verical; ComponentLink1Description: https://datasheet.ciiva.com/15144/getdatasheetpartid-88045-15144615.pdf?src-supplier=Verical; ComponentLink2URL: https://datasheet.ciiva.com/25624/0900766b810e25bc-25624911.pdf?src-supplier=Rs; ComponentLink2Description: https://datasheet.ciiva.com/25624/0900766b810e25bc-25624911.pdf?src-supplier=Rs; ComponentLink3URL: https://datasheet.ciiva.com/5739/1766356-5739424.pdf?src-supplier=Farnell; ComponentLink3Description: https://datasheet.ciiva.com/5739/1766356-5739424.pdf?src-supplier=Farnell; ComponentLink4URL: https://datasheet.ciiva.com/4452/rs1m-192005-4452671.pdf?src-supplier=Mouser; ComponentLink4Description: https://datasheet.ciiva.com/4452/rs1m-192005-4452671.pdf?src-supplier=Mouser; ComponentLink5URL: https://datasheet.ciiva.com/910/rs1m-910528.pdf?src-supplier=Digi-Key; ComponentLink5Description: https://datasheet.ciiva.com/910/rs1m-910528.pdf?src-supplier=Digi-Key; ComponentLink6URL: https://datasheet.ciiva.com/22685/1766356-22685767.pdf?src-supplier=Element14; ComponentLink6Description: https://datasheet.ciiva.com/22685/1766356-22685767.pdf?src-supplier=Element14; ComponentLink7URL: https://datasheet.ciiva.com/910/rs1a-910526.pdf?src-supplier=Digi-Key; ComponentLink7Description: https://datasheet.ciiva.com/910/rs1a-910526.pdf?src-supplier=Digi-Key; Supplier Part Number 1: RS1MFSCT-ND
footprint DIO214AC
pins: 1, 2
text: A; K

## DIO_TVS_CAN_ESD_SOT23
designator D?, comment PESD2CAN,215
PESD Series 2 Channel Bi-Directional CAN Bus ESD Protection Diode - SOT-23; Manufacturer: Nexperia; Direction: Bidirectional; Breakdown Voltage: 30.3V; Clamping Voltage: 41V; Number of Channels: 1; Peak Pulse Current: 5A; Reverse Standoff Voltage: 24V; Supplier: Digikey; Supplier Part Number: 1727-3891-6-ND; Manufacturer Part Number: PESD2CAN,215; RoHS: No; Category: ESD and Circuit Protection ICs; Stock: 258317; Pricing: 1=0.49, 10=0.378, 100=0.227, 500=0.21016, 1000=0.14291 (USD); Pins: 3; Packaging: Tape and Reel; Operating Supply Voltage: 24V; Height: 1.1mm; ComponentLink1URL: http://www.farnell.com/datasheets/1750978.pdf?src-supplier=Farnell; ComponentLink1Description: http://www.farnell.com/datasheets/1750978.pdf?src-supplier=Farnell; ComponentLink2URL: https://assets.nexperia.com/documents/data-sheet/PESD2CAN.pdf?src-supplier=Digikey; ComponentLink2Description: https://assets.nexperia.com/documents/data-sheet/PESD2CAN.pdf?src-supplier=Digikey
footprint SOT23
pins: 1, 2 "1", 3 "1"

## FM Fiducial Markers
designator FM?  (value not drawn)  (no BOM)
Fiducial Markers for Pick and Place Machines
footprint Fiducial Markers

## IC_ALC5651
designator U?, comment ALC5651
Ultra-Low Power Two-Channel Audio CODEC / with SounzRealTM Digital Sound Effect / for Mobile Devices; Manufacturer: Realtek; Manufacturer Part Number: ALC5651; Case/Package: PQFA-45; Supplier-1: NA
footprint QFN40_15.7_227X227_SMD (QFN Package)
pins: 1 MICVDD, 2 MICBIAS1, 3 JD1, 4 IN1P/DMIC_DAT, 5 IN2P, 6 IN2N/JD2, 7 IN3P, 8 DACREF, 9 AVDD, 10 AGND, 11 VREF, 12 LOUTL/P, 13 LOUTR/N, 14 CPN2, 15 CPP2, 16 CPN1, 17 CPP1, 18 CPVDD, 19 CPVPP, 20 CPVREF, 21 HPO_R, 22 CPVEE, 23 HPO_L, 24 PDM_SDA, 25 PDM_SCL, 26 ADCDAT2, 27 DACDAT2, 28 LRCK2, 29 BCLK2, 30 ADCDAT1, 31 DACDAT1, 32 LRCK1, 33 BCLK1, 34 MCLK, 35 SCL, 36 SDA, 37 GPIO1/IRQ1, 38 GPIO2/DMIC_SCL, 39 DBVDD, 40 DCVDD, 41 PAD

## IC_AP6356S
designator U?, comment AP6356S
AMPAK Technology would like to announce a low-cost and low-power consumption module / which has all of the WiFi and Bluetooth functionalities.; Manufacturer: Rockchip; Manufacturer Part Number: AP6356S; Case/Package: NA; Supplier-1: Rockchip
footprint QFN127P600-8N (QFN Package)
pins: 1 GND, 2 WL/BT_ANT0 , 3 GND, 4 GND, 5 GND, 6 GND, 7 GND, 8 GND, 9 WL_ANT1, 10 GND, 11 GND, 12 PCIE_PERST, 13 XTAL_OUT, 14 XTAL_IN, 15 WL_REG_ON, 16 WL_HOST_WAKE, 17 SDIO_DATA_CMD, 18 SDIO_DATA_CLK, 19 SDIO_DATA_3, 20 SDIO_DATA_2, 21 SDIO_DATA_0, 22 SDIO_DATA_1, 23 GND, 24 PCIE_PME_L, 25 VIN_LDO, 26 VIN_LDO_OUT, 27 PCM_SYNC, 28 PCM_IN, 29 PCM_OUT, 30 PCM_CLK, 31 LPO, 32 GND, 33 PCIE_REFCLK_N, 34 VDDIO, 35 PCIE_REFCLK_P, 36 VBAT, 37 PCIE_CLKREQ_L, 38 BT_REG_ON, 39 GND, 40 UART_TXD, 41 UART_RXD, 42 UART_RTS_N, 43 UART_CTS_N, 44 PCIE_RDN, 45 PCIE_RDP, 46 PCIE_TDN, 47 PCIE_TDP, 48 GPIO8_9, 49 BT_WAKE, 50 BT_HOST_WAKE

## IC_AS5600
designator U?  (value not drawn)
AS5600 Series 5.5 V ±5% 12-bit Programmable Contactless Potentiometer - SOIC-8; Manufacturer: Osram; Manufacturer Part Number: AS5600-ASOM; Supplier 1: Avnet; RoHS: No; Stock 1: 19500; Pricing 1: 500=1.6576, 1000=1.6128, 2000=1.568, 3000=1.5232, 4000=1.4784, 5000=1.4336, 50000=1.3888 (USD); ComponentLink1URL: https://datasheet.octopart.com/AS5600-ASOM-Osram-datasheet-116051199.pdf?src-supplier=Future+Electronics; ComponentLink1Description: https://datasheet.octopart.com/AS5600-ASOM-Osram-datasheet-116051199.pdf?src-supplier=Future+Electronics
footprint SOIC8_1.27mm AS5600 (SOIC, 8-Leads, Body 4.90x3.90mm, Pitch 1.27mm, IPC Medium Density)
pins: 1 VDD5V, 2 VDD3V3, 3 OUT, 4 GND, 5 PGO, 6 SDA, 7 SCL, 8 DIR
text: AS5600

## IC_BNO055 IMU
designator U?
BNO055 Series 1.7 to 3.6 V Intelligent 9-Axis Absolute Orientation Sensor-LGA-28; Manufacturer: Bosch; Supplier 1: Future Electronics; Manufacturer Part Number: BNO055; RoHS: No; Category: Inertial Measurement Units (IMUs); Pricing 1: 4000=6.41 (USD); ComponentLink1URL: https://ae-bst.resource.bosch.com/media/_tech/media/application_notes/BST-BNO055-HS000.pdf ?src-supplier=Digi-Key; ComponentLink1Description: https://ae-bst.resource.bosch.com/media/_tech/media/application_notes/BST-BNO055-HS000.pdf ?src-supplier=Digi-Key; ComponentLink2URL: https://datasheet.octopart.com/BNO055-Bosch-Sensortec-datasheet-127364294.pdf?src-supplier=LKR; ComponentLink2Description: https://datasheet.octopart.com/BNO055-Bosch-Sensortec-datasheet-127364294.pdf?src-supplier=LKR
pins: 1 PIN1, 2 GND, 3 VDD, 4 nBOOT_LOAD, 5 PS1, 6 PS0, 7 SWDIO, 8 SWCLK, 9 CAP, 10 PIN10, 11 nRESET, 12 PIN12, 13 PIN13, 14 INT, 15 PIN15, 16 PIN16, 17 COM3, 18 COM2, 19 COM1, 20 COM0, 21 PIN21, 22 PIN22, 23 PIN23, 24 PIN24, 25 GNDIO, 26 XOUT32, 27 XIN32, 28 VDDIO

## IC_CANRXTX_TJA1042T/3118_SO-8
designator U?, comment TJA1042T/3,118
1/1 Transceiver Half CANbus 8-SO; Manufacturer: NXP Semiconductors; Package Body Material: Plastic; Data Rate: 1000Mbps; Channels: 1; Package Equivalence Code: SOP8,.25; Power Supplies: 5V; Max Supply Current: 70uA; Telecom IC Type: INTERFACE CIRCUIT; Qualification Status: Not Qualified; Supplier: Digikey; Supplier Part Number: 568-8678-6-ND; Manufacturer Part Number: TJA1042T/3,118; RoHS: Yes; Category: Interface ICs; Stock: 37083; Pricing: 1=1.78, 10=1.6, 25=1.5096, 100=1.2863, 250=1.20776, 500=1.05678, 1000=0.87562 (USD); Case/Package: SOP; Pins: 8; Package Shape: Rectangular; Terminal Finish: Nickel; Min Operating Temperature: -40°C; Max Operating Temperature: 125°C; JESD-609 Code: e4; JESD-30 Code: R-PDSO-G8; Moisture Sensitivity Level: 1; Number of Transceivers: 1; Package Style: SMALL OUTLINEMeter; Nominal Supply Voltage: 5V; Surface Mount: Yes; Terminal Form: Gull Wing; Terminal Position: DUAL; Length: 4.9mm; Width: 3.9mm; Height - Seated (Max): 1.75mm; Terminal Pitch: 1.27mm; Temperature Grade: AUTOMOTIVE; Reach SVHC Compliant: Yes; RoHS Compliant: Yes; ComponentLink1URL: https://datasheet.ciiva.com:443/pdfs/VipMasterIC/IC/PHGL/PHGLS24518/PHGLS24518-1.pdf?src-supplier=IHS+Markit; ComponentLink1Description: https://datasheet.ciiva.com:443/pdfs/VipMasterIC/IC/PHGL/PHGLS24518/PHGLS24518-1.pdf?src-supplier=IHS+Markit; ComponentLink2URL: https://datasheet.ciiva.com/4781/tja1042-120193-4781371.pdf?src-supplier=Mouser; ComponentLink2Description: https://datasheet.ciiva.com/4781/tja1042-120193-4781371.pdf?src-supplier=Mouser; ComponentLink3URL: https://datasheet.ciiva.com/15149/getdatasheetpartid-295270-15149994.pdf?src-supplier=Verical; ComponentLink3Description: https://datasheet.ciiva.com/15149/getdatasheetpartid-295270-15149994.pdf?src-supplier=Verical
footprint SO-8 (1.27mm pitch)
pins: 1 TXD, 2 GND, 3 Vcc, 4 RXD, 5 Vio, 6 CANL, 7 CANH, 8 STB

## IC_CP2102N QFN28
designator U?, comment CP2102N-A01-GQFN28
Full Speed USB to UART Bridge USB 2.0 3.3V Tube Automotive 28-Pin QFN EP; Manufacturer: Silicon Labs; Manufacturer Part Number: CP2102N-A02-GQFN28; Supplier 1: Rs; RoHS: Yes; Category: USB Interface ICs; Stock 1: 43
footprint QFN28_0.5mm CP2102N
pins: 1 DCD "1", 2 RI/CLK "1", 3 GND "1", 4 D+ "1", 5 D- "1", 6 VDD "1", 7 VREGIN "1", 8 VBUS "1", 9 RSTb "1", 10 NC "1", 11 SUSPENDb "1", 12 SUSPEND "1", 13 CHREN "1", 14 CHR1 "1", 15 CHR0 "1", 16 GPIO.3/WAKEUP "1", 17 GPIO.2/RS485 "1", 18 GPIO.1/RXT "1", 19 GPIO.0/TXT "1", 20 GPIO.6 "1", 21 GPIO.5 "1", 22 GPIO.4 "1", 23 CTS "1", 24 RTS "1", 25 RXD "1", 26 TXD "1", 27 DSR "1", 28 DTR "1", 29 PAD/GND "1"
text: CP2102N-QFN28

## IC_Current-Monitor_INA230AIRGTT
designator U?, comment INA230AIRGTT  (value not drawn)
Current Monitor Regulator High/Low-Side 16-VQFN (3x3); Manufacturer: Texas Instruments; Supplier 1: Mouser; Manufacturer Part Number: INA230AIRGTT; RoHS: Yes; Category: Amplifiers - Op Amps, Buffer, Instrumentation; Stock 1: 14; Pricing 1: 1=3.11, 10=2.79, 50=2.79, 100=2.29, 1000=1.64, 10000=1.51 (USD); ComponentLink1URL: https://datasheet.ciiva.com/4752/sbos601-126017-4752299.pdf?src-supplier=Mouser; ComponentLink1Description: https://datasheet.ciiva.com/4752/sbos601-126017-4752299.pdf?src-supplier=Mouser; ComponentLink2URL: https://datasheet.ciiva.com/2965/ina230-2965265.pdf?src-supplier=Avnet; ComponentLink2Description: https://datasheet.ciiva.com/2965/ina230-2965265.pdf?src-supplier=Avnet; ComponentLink3URL: https://datasheet.ciiva.com/25630/0900766b8119b045-25630794.pdf?src-supplier=Rs; ComponentLink3Description: https://datasheet.ciiva.com/25630/0900766b8119b045-25630794.pdf?src-supplier=Rs; ComponentLink4URL: https://datasheet.ciiva.com/15132/getdatasheetpartid-486929-15132660.pdf?src-supplier=Verical; ComponentLink4Description: https://datasheet.ciiva.com/15132/getdatasheetpartid-486929-15132660.pdf?src-supplier=Verical; ComponentLink5URL: https://datasheet.ciiva.com/2965/ina230-2965138.pdf?src-supplier=Avnet; ComponentLink5Description: https://datasheet.ciiva.com/2965/ina230-2965138.pdf?src-supplier=Avnet; ComponentLink6URL: https://datasheet.ciiva.com/1484/ina230-1484942.pdf?src-supplier=Element14; ComponentLink6Description: https://datasheet.ciiva.com/1484/ina230-1484942.pdf?src-supplier=Element14; ComponentLink7URL: https://datasheet.ciiva.com/6613/ina230-6613769.pdf?src-supplier=Digi-Key; ComponentLink7Description: https://datasheet.ciiva.com/6613/ina230-6613769.pdf?src-supplier=Digi-Key; ComponentLink8URL: https://datasheet.ciiva.com/6613/ina230-6613770.pdf?src-supplier=Digi-Key; ComponentLink8Description: https://datasheet.ciiva.com/6613/ina230-6613770.pdf?src-supplier=Digi-Key; ComponentLink9URL: https://datasheet.ciiva.com/6613/ina230-6613771.pdf?src-supplier=Digi-Key; ComponentLink9Description: https://datasheet.ciiva.com/6613/ina230-6613771.pdf?src-supplier=Digi-Key
pins: 1 A1 (in), 2 A0 (in), 3 ALERT, 4 SDA, 5 SCL (in), 6 NC_6, 7 NC_7, 8 NC_8, 9 VS, 10 GND, 11 BUS (in), 12 IN- (in), 13 IN+ (in), 14 NC_14, 15 NC_15, 16 NC_16, 17 PAD

## IC_Fuel_Gauge_MAX17262REWL+T
designator U?, comment Fuel Meter - Battery Indicator  (value not drawn)
MAX17262 Series 4.9 V 5.2 µA 1-Cell Ultra-Low Power Fuel-Gauge IC - WLP-9; Manufacturer: Maxim; Manufacturer Part Number: MAX17262REWL+T; Supplier 1: Digi-Key; Supplier Part Number 1: 175-MAX17262REWL+TCT-ND; RoHS: Yes; Category: Battery Management; Stock 1: 25772; Pricing 1: 1=2.89, 10=2.594, 25=2.4524, 100=2.1255, 250=2.01648, 500=1.8094, 1000=1.635 (USD); RoHS Compliant: Yes; ComponentLink1URL: http://www.farnell.com/datasheets/2842802.pdf?src-supplier=Farnell; ComponentLink1Description: http://www.farnell.com/datasheets/2842802.pdf?src-supplier=Farnell
footprint BGA_9_0.4mm_1.448_1.468 (MAX17262R)
pins: A1 TH "1", A2 BATT "1", A3 NC "1", B1 SCL (in) "1", B2 ALRT "1", B3 SYS "1", C1 SDA "1", C2 REG "1", C3 GND "1"
text: Battery Gauge

## IC_FUSB302MPX
designator U?, comment FUSB302MPX
USB Controller USB 3.1 USB Interface 14-MLP (2.5x2.5); Manufacturer: ON Semiconductor; Manufacturer Part Number: FUSB302MPX; Case/Package: 14-MLP; Supplier-1: Digikey
footprint MLP-14_98.4X98.4_SMD (MLP Package)
pins: 1 CC2_1, 2 VBUS, 3 NC1, 4 VDD, 5 INT, 6 SCL, 7 SDA, 8 NC2, 9 GND, 10 CC1_10, 11 CC1_11, 12 VCONN_12, 13 VCONN_13, 14 CC2_14, 15 ePAD

## IC_HX711_24BIT ADC_16SOIC
designator U?, comment HX711  (value not drawn)
24 BIT Analog to Digital Converter for weight scales
footprint SOIC16_1.27mm HX711
pins: 1 VSUP "1", 2 BASE "1", 3 AVDD "1", 4 VFB "1", 5 AGND "1", 6 VBG "1", 7 INA- "1", 8 INA+ "1", 9 INB- "1", 10 INB+ "1", 11 PD_SCK "1", 12 DOUT "1", 13 XO "1", 14 XI "1", 15 RATE "1", 16 DVDD "1"

## IC_IMU_BHI360
designator U?, comment BHI360  (value not drawn)
Accelerometer, Gyroscope, 6 Axis Sensor I²C, SPI Output; Manufacturer: Bosch Tools; Supplier 1: Mouser; Manufacturer Part Number: BHI360; RoHS: No; Category: Uncategorized; Stock 1: 452; Pricing 1: 1=6.54, 10=5.24, 50=5.24, 100=4.15, 1000=3.77, 10000=3.2 (USD)
footprint LGA20 (Bosch BHI360)
pins: 1 HSDO, 2 ASDX, 3 ASCX, 4 HIRQ, 5 VDDIO, 6 GNDIO, 7 GND, 8 VDD, 9 VREG, 10 OSCB, 11 OSDO, 12 HCSB, 13 HSCX, 14 HSDX, 15 M3SCL, 16 JTAG_DIO, 17 RESETIN, 18 M3SDA, 19 RESV2, 20 RESV1

## IC_IMU_BMM350_3 Axis Magnetometer
designator U?, comment BMM350  (value not drawn)
BMM350 Series 1.98 V I2C/I3C Interface 16 Bit 3 Axis Magnetometer - WLCSP-9; Manufacturer: Bosch Sensortec; Supplier 1: Future Electronics; Manufacturer Part Number: BMM350; RoHS: No; Category: Uncategorized
footprint BGA9 (BMM350)
pins: A1 INT, A2 SDA, A3 SCK, B1 GND, B2 ADSEL, B3 VDDIO, C1 VDD, C2 CRST, C3 BYPASS

## IC_IMU_ST_ASM330LHHTR_LGA-14L
designator U?, comment ASM330LHHTR
Accelerometer, Gyroscope, Temperature, 6 Axis Sensor I2C, SPI Output; Manufacturer: STMicroelectronics; Throw Configuration: ANALOG CIRCUIT; Supplier: Digikey; Supplier Part Number: 497-19078-1-ND; Manufacturer Part Number: ASM330LHHTR; RoHS: Yes; Category: Inertial Measurement Units (IMUs); Stock: 8175; Pricing: 1=11.49, 10=9.191, 25=8.502, 100=7.353, 500=6.8934, 1000=6.43384 (USD); Reach SVHC Compliant: Yes; RoHS Compliant: Yes; ComponentLink1URL: https://datasheet.ciiva.com:443/pdfs/VipMasterIC/IC/SGST/SGST-S-A0007768447/SGST-S-A0007768447-1.pdf?src-supplier=IHS+Markit; ComponentLink1Description: https://datasheet.ciiva.com:443/pdfs/VipMasterIC/IC/SGST/SGST-S-A0007768447/SGST-S-A0007768447-1.pdf?src-supplier=IHS+Markit; ComponentLink2URL: https://www.st.com/resource/en/datasheet/asm330lhh.pdf?src-supplier=Digikey; ComponentLink2Description: https://www.st.com/resource/en/datasheet/asm330lhh.pdf?src-supplier=Digikey
footprint LGA-14L
pins: 1 SDO/SA0, 2 RES, 3 RES, 4 INT1, 5 Vdd_IO, 6 GNSD (power), 7 GND (power), 8 Vdd (power), 9 INT2, 10 NC, 11 NC, 12 CS (in), 13 SCL (in), 14 SDA (io)

## IC_IMU_TDK_ICM-42670-P
designator U?, comment ICM-42670-P
Manufacturer: TDK; Supplier: Mouser; Supplier Part Number: 410-ICM-42670-P; Manufacturer Part Number: ICM-42670-P; RoHS: No; Stock: 7642; Pricing: 1=4.8, 10=3.07, 50=3.07, 100=2.98, 1000=2.33, 10000=2.18 (USD)

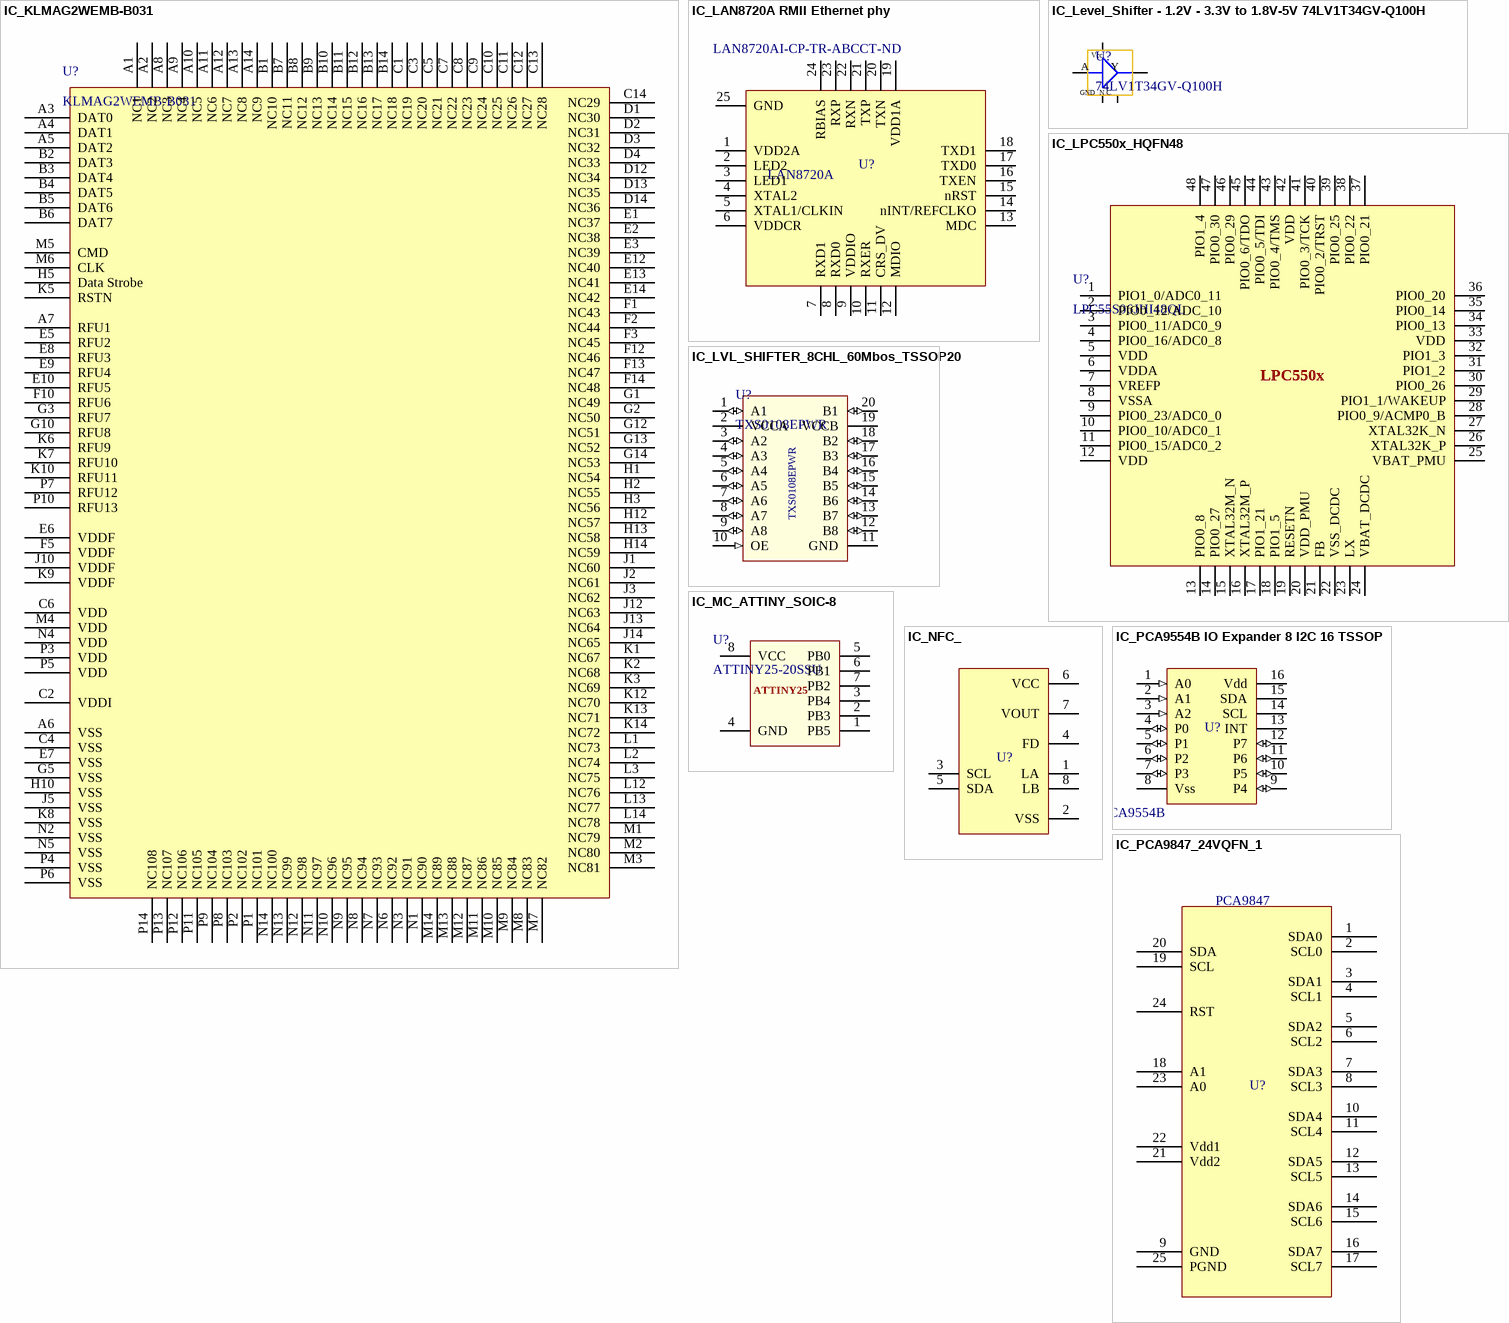
[diagram p4: symbols IC_KLMAG2WEMB-B031 to IC_PCA9847_24VQFN_1]

## IC_KLMAG2WEMB-B031
designator U?, comment KLMAG2WEMB-B031
16GB NAND Flash Memory; Manufacturer: Samsung Electronics; Manufacturer Part Number: KLMAG2WEMB-B031; Case/Package: 153-FBGA; Supplier-1: NA
footprint BGA153_IC_KLMAG2WEMB-B031
pins: A1 NC1, A2 NC2, A3 DAT0, A4 DAT1, A5 DAT2, A6 VSS, A7 RFU1, A8 NC3, A9 NC4, A10 NC5, A11 NC6, A12 NC7, A13 NC8, A14 NC9, B1 NC10, B2 DAT3, B3 DAT4, B4 DAT5, B5 DAT6, B6 DAT7, B7 NC11, B8 NC12, B9 NC13, B10 NC14, B11 NC15, B12 NC16, B13 NC17, B14 NC18, C1 NC19, C2 VDDI, C3 NC20, C4 VSS, C5 NC21, C6 VDD, C7 NC22, C8 NC23, C9 NC24, C10 NC25, C11 NC26, C12 NC27, C13 NC28, C14 NC29, D1 NC30, D2 NC31, D3 NC32, D4 NC33, D12 NC34, D13 NC35, D14 NC36, E1 NC37, E2 NC38, E3 NC39, E5 RFU2, E6 VDDF, E7 VSS, E8 RFU3, E9 RFU4, E10 RFU5, E12 NC40, E13 NC41, E14 NC42, F1 NC43, F2 NC44, F3 NC45, F5 VDDF, F10 RFU6, F12 NC46, F13 NC47, F14 NC48, G1 NC49, G2 NC50, G3 RFU7, G5 VSS, G10 RFU8, G12 NC51, G13 NC52, G14 NC53, H1 NC54, H2 NC55, H3 NC56, H5 Data Strobe, H10 VSS, H12 NC57, H13 NC58, H14 NC59, J1 NC60, J2 NC61, J3 NC62, J5 VSS, J10 VDDF, J12 NC63, J13 NC64, J14 NC65, K1 NC67, K2 NC68, K3 NC69, K5 RSTN, K6 RFU9, K7 RFU10, K8 VSS, K9 VDDF, K10 RFU11, K12 NC70, K13 NC71, K14 NC72, L1 NC73, L2 NC74, L3 NC75, L12 NC76, L13 NC77, L14 NC78, M1 NC79, M2 NC80, M3 NC81, M4 VDD, M5 CMD, M6 CLK, M7 NC82, M8 NC83, M9 NC84, M10 NC85, M11 NC86, M12 NC87, M13 NC88, M14 NC89, N1 NC90, N2 VSS, N3 NC91, N4 VDD, N5 VSS, N6 NC92, N7 NC93, N8 NC94, N9 NC95, N10 NC96, N11 NC97, N12 NC98, N13 NC99, N14 NC100, P1 NC101, P2 NC102, P3 VDD, P4 VSS, P5 VDD, P6 VSS, P7 RFU12, P8 NC103, P9 NC104, P10 RFU13, P11 NC105, P12 NC106, P13 NC107, P14 NC108